# Altium schematic symbol library EG8010前级驱动.SCHLIB: 13 symbols
Pins are listed as number, name and electrical type; pins without a type are passive.

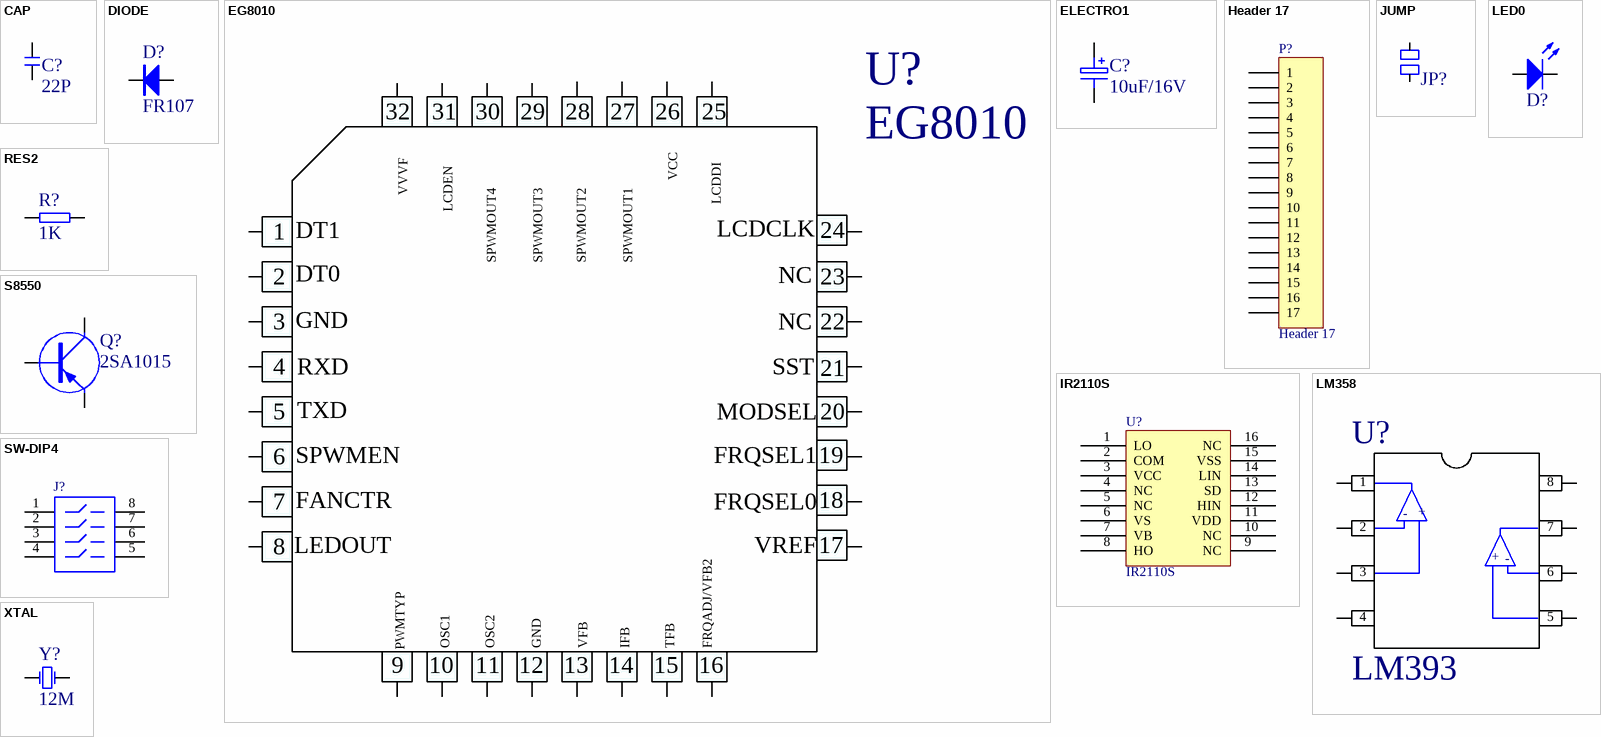
[diagram p0: symbols CAP to XTAL]

## CAP
designator C?, comment 22P
Capacitor
footprint 0805
pins: 1, 2
2 alternate drawings of the same symbol

## DIODE
designator D?, comment FR107
Diode
footprint FR107
pins: 1 A, 2 K
2 alternate drawings of the same symbol

## EG8010
designator U?
footprint LQFP-32
pins: 1 P16, 2 p17, 3 rst, 4 p30, 5 p31, 6 p32, 7 p33, 8 p34, 9 p35, 10 x2, 11 x1, 12 vss, 13 p20, 14 p21, 15 p22, 16 p23, 17 p24, 18 p25, 19 p26, 20 p27, 21 oc, 22 psen/vpp, 23 ale, 24 ea, 25 nc, 26 vcc, 27 p10, 28 p11, 29 p12, 30 p13, 31 p14, 32 p15
2 alternate drawings of the same symbol
text: VCC; VVVF; LCDDI; LCDEN; DT1; LCDCLK; SPWMOUT4; SPWMOUT3; SPWMOUT2; SPWMOUT1; DT0; NC; GND; RXD; SST; TXD; MODSEL; SPWMEN; FRQSEL1; FANCTR; FRQSEL0; LEDOUT; VREF; PWMTYP; OSC1; OSC2; VFB; IFB; TFB; FRQADJ/VFB2

## ELECTRO1
designator C?, comment 10uF/16V
Electrolytic Capacitor
footprint C-1206
pins: 1, 2
2 alternate drawings of the same symbol

## Header 17
designator P?
Header, 17-Pin; LatestRevisionDate: 17-Jul-2002; LatestRevisionNote: Re-released for DXP Platform.; Publisher: Altium Limited
footprint HDR1X17 (Connector; Header; 17 Position)
signal-integrity model Connector
pins: 1, 2, 3, 4, 5, 6, 7, 8, 9, 10, 11, 12, 13, 14, 15, 16, 17

## IR2110S
designator U?
footprint IR2110S
pins: 1 LO, 2 COM, 3 VCC, 4 NC, 5 NC, 6 VS, 7 VB, 8 HO, 9 NC, 10 NC, 11 VDD, 12 HIN, 13 SD, 14 LIN, 15 VSS, 16 NC

## JUMP
designator JP?  (value not drawn)
footprint HDR1X2 (Connector; Header; 2 Position)
pins: 1, 2
2 alternate drawings of the same symbol

## LED0
designator D?, comment LED  (value not drawn)
Typical INFRARED GaAs LED; Manufacturer: Generic Components; Class: Optoelectronic; Published: 08/06/2000; Publisher: Altium Hobart Technology Centre; SubClass: LED
footprint LED-S
pins: 1 A, 2 K
2 alternate drawings of the same symbol

## LM358
designator U?, comment LM393
运放
footprint SO-8
pins: 1, 2, 3, 4, 5, 6, 7, 8
2 alternate drawings of the same symbol
text: -; +

## RES2
designator R?, comment 1K
footprint 0805
pins: 1, 2
2 alternate drawings of the same symbol

## S8550
designator Q?, comment 2SA1015
PNP  Transistor
footprint SOT23_1B2E3C
pins: 1 B, 2 E, 3 C
2 alternate drawings of the same symbol

## SW-DIP4
designator J?  (value not drawn)
DIP Switch; Published: 24-Mar-1999; LatestRevisionDate: 17-Jul-2002; LatestRevisionNote: Re-released for DXP Platform.; PackageReference: DIP-8; Publisher: Altium Limited
footprint DIP-8 (DIP; 8 Leads; Row Spacing 7.62 mm; Pitch 2.54 mm)
simulation model dpsw4 (Spice Subcircuit)
footprint DIP-8 (DIP; 8 Leads; Row Spacing 7.62 mm; Pitch 2.54 mm)
pins: 1, 2, 3, 4, 5, 6, 7, 8

## XTAL
designator Y?, comment 12M
Crystal Oscillator; Manufacturer: Generic Components; Published: 08/06/2000; Publisher: Altium Hobart Technology Centre; Class: Oscillator; SubClass: Crystal Oscillator
footprint OSC1
pins: 1 OSC1, 2 OSC2
2 alternate drawings of the same symbol